# Altium footprint library WE-LLCR.PcbLib: 3 footprints
Each footprint in its own frame and in the unit in brackets; x right, y up, seen from the top. Pads: shape width x height; smd on the part's side, far side on the other; paste and mask are expansions set on the pad; w line width, h text height; cw(c..) or ccw(c..) is an arc to the next point about the centre after c.
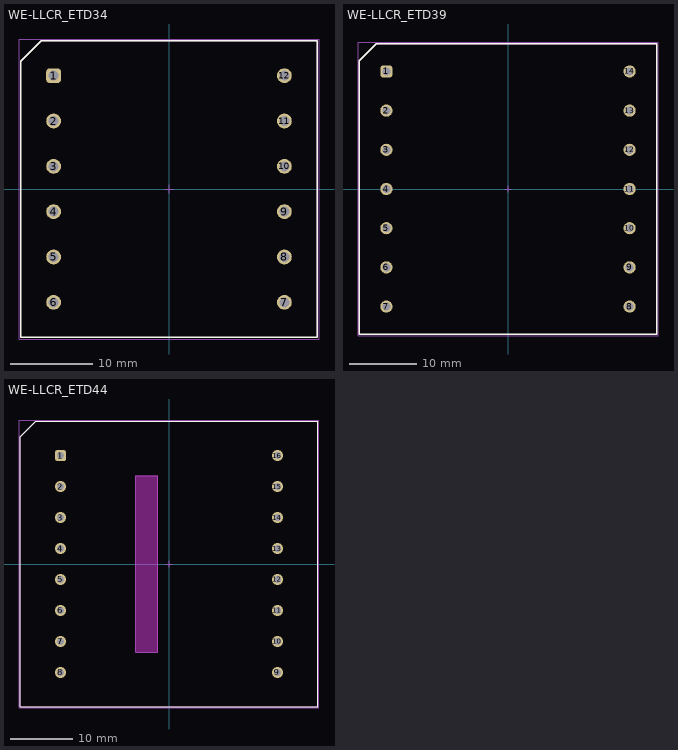
[diagram p0: the footprints below, top view; thin cyan lines are the x and y axes]

## WE-LLCR_ETD34 [mm] "Resonant Converter, body 36x36mm"
height 26
pads (12):
  rrect50% 1.8x1.8 hole 1.2: 1(-14,13.75)
  round 1.8 hole 1.2: 2(-14,8.25) 3(-14,2.75) 4(-14,-2.75) 5(-14,-8.25) 6(-14,-13.75) 7(14,-13.75) 8(14,-8.25) 9(14,-2.75) 10(14,2.75) 11(14,8.25) 12(14,13.75)
Top Overlay:
  lines w0.2: -18,-18 -18,15.5 -15.5,18 18,18 18,-18 -18,-18
Top Designator:
  text ".Designator" at -7.498,-0.5 h1.5
Top Component Outline:
  lines w0.1: -18,-18 18,-18 18,18 -15.5,18 -18,15.5 -18,-18
Top Courtyard:
  lines w0.05: -0.5,0 0.5,0 ; 0,-0.5 0,0.5 ; -18.2,-18.2 18.2,-18.2 18.2,18.2 -18.2,18.2 -18.2,-18.2
3D body "ETD34_760895431.stp": height 24.56, standoff -3.55, extent -17.5,-17.35 17.5,17.35

## WE-LLCR_ETD39 [mm] "Resonant Converter, body 44x43mm"
height 30
pads (14):
  rrect50% 1.8x1.8 hole 1.2: 1(-18,17.4)
  round 1.8 hole 1.2: 2(-18,11.6) 3(-18,5.8) 4(-18,0) 5(-18,-5.8) 6(-18,-11.6) 7(-18,-17.4) 8(18,-17.4) 9(18,-11.6) 10(18,-5.8) 11(18,0) 12(18,5.8) 13(18,11.6) 14(18,17.4)
Top Overlay:
  lines w0.2: -22,-21.5 22,-21.5 22,21.5 -19.5,21.5 -22,19 -22,-21.5
Top Designator:
  text ".Designator" at -7.498,-0.5 h1.5
Top Component Outline:
  lines w0.1: -22,-21.5 -22,19 -19.5,21.5 22,21.5 22,-21.5 -22,-21.5
Top Courtyard:
  lines w0.05: -0.5,0 0.5,0 ; 0,-0.5 0,0.5 ; -22.2,-21.7 -22.2,21.7 22.2,21.7 22.2,-21.7 -22.2,-21.7
3D body "ETD39_7608956x1.stp": height 29.65, standoff -3, extent -21.55,-20.9 21.55,20.9

## WE-LLCR_ETD44 [mm] "Resonant Converter, body 48x46mm"
height 27.5
pads (16):
  rrect50% 1.8x1.8 hole 1.2: 1(-17.5,17.5)
  round 1.8 hole 1.2: 2(-17.5,12.5) 3(-17.5,7.5) 4(-17.5,2.5) 5(-17.5,-2.5) 6(-17.5,-7.5) 7(-17.5,-12.5) 8(-17.5,-17.5) 9(17.5,-17.5) 10(17.5,-12.5) 11(17.5,-7.5) 12(17.5,-2.5) 13(17.5,2.5) 14(17.5,7.5) 15(17.5,12.5) 16(17.5,17.5)
Top Overlay:
  lines w0.2: -24,-23 24,-23 24,23 -21.5,23 -24,20.5 -24,-23
Keep-Out Layer:
  board cut-out: -5.35,14.25 -1.85,14.25 -1.85,-14.25 -5.35,-14.25
Notes:
  lines w0.1: -5.35,-14.25 -5.35,14.25 -1.85,14.25 -1.85,-14.25 -3.6,-14.25 -5.35,-14.25
  text "PCB Cutout Area" at -3,-6 h2
Top Designator:
  text ".Designator" at -7.498,-0.5 h1.5
Top Component Outline:
  lines w0.1: -24,-23 -24,20.5 -21.5,23 24,23 24,-23 -24,-23
Top Courtyard:
  lines w0.05: -0.5,0 0.5,0 ; 0,-0.5 0,0.5 ; -24.2,-23.2 24.2,-23.2 24.2,23.2 -24.2,23.2 -24.2,-23.2
3D body "ETD44_7608957x1.stp": height 26.85, standoff -3.35, extent -23.3,-22 23.3,22